# EAGLE library part TXB0108 (library we-chip)
TI TXB0108 8-Bit Bi-Directional Level Shifter (1.2V-3.6V to 1.65V-5.5V)
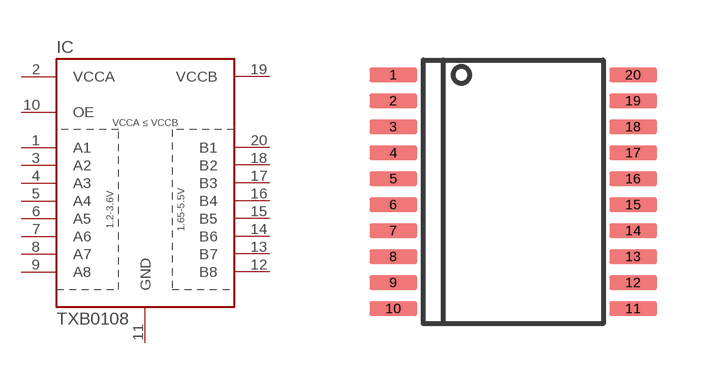
[diagram p35: symbol with the pads of TSSOP20; footprint TSSOP20]

Designator prefix IC

## TXB0108-PW  [TSSOP20]
1  A1
2  VCCA  pwr
3  A2
4  A3
5  A4
6  A5
7  A6
8  A7
9  A8
10  OE
11  GND  pwr
12  B8
13  B7
14  B6
15  B5
16  B4
17  B3
18  B2
19  VCCB  pwr
20  B1

## Footprint TSSOP20 (pad centres in mm)
smd 1.2 x 0.35: 1 -3,2.925; 2 -3,2.275; 3 -3,1.625; 4 -3,0.975; 5 -3,0.325; 6 -3,-0.325; 7 -3,-0.975; 8 -3,-1.625; 9 -3,-2.275; 10 -3,-2.925; 11 3,-2.925; 12 3,-2.275; 13 3,-1.625; 14 3,-0.975; 15 3,-0.325; 16 3,0.325; 17 3,0.975; 18 3,1.625; 19 3,2.275; 20 3,2.925